# EAGLE library part SIL-11 (library n64-rgb-dac)
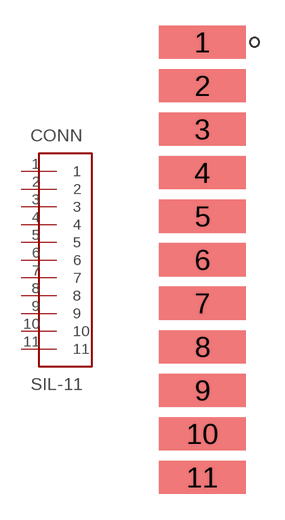
[diagram p4: symbol with the pads of SIL-SMD-11; footprint SIL-SMD-11]

Designator prefix CONN

## SIL-11  [SIL-SMD-11]
1  1
2  2
3  3
4  4
5  5
6  6
7  7
8  8
9  9
10  10
11  11

## Footprint SIL-SMD-11 (pad centres in mm)
smd 5.08 x 1.93: 1 0,12.7; 2 0,10.16; 3 0,7.62; 4 0,5.08; 5 0,2.54; 6 0,0; 7 0,-2.54; 8 0,-5.08; 9 0,-7.62; 10 0,-10.16; 11 0,-12.7